# EAGLE library part ESP32-DEVKITC (library ESP32-DEVKITC-32D)
ESP32-DEVKITC
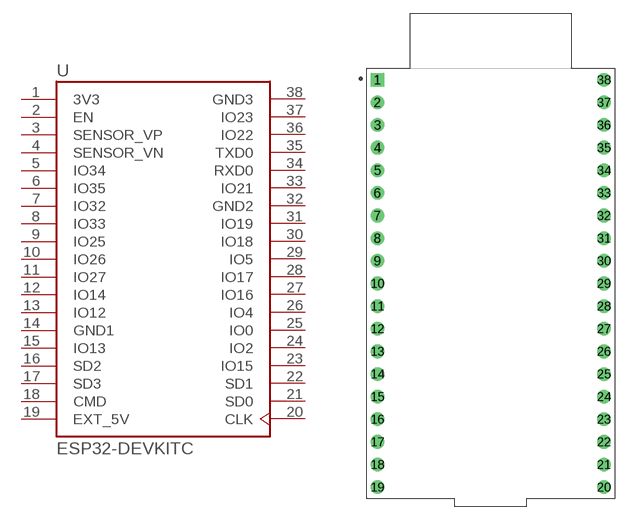
[diagram p1: symbol with the pads of MODULE_ESP32-DEVKITC; footprint MODULE_ESP32-DEVKITC]

Designator prefix U

## ESP32-DEVKITC (AVAILABILITY: Unavailable; DESCRIPTION: ESP32-DEVKITC; MF: Espressif Systems; MP: ESP32-DevKitC; PACKAGE: None; PRICE: None)  [MODULE_ESP32-DEVKITC]
1  3V3  pwr
2  EN  in
3  SENSOR_VP  in
4  SENSOR_VN  in
5  IO34
6  IO35
7  IO32
8  IO33
9  IO25
10  IO26
11  IO27
12  IO14
13  IO12
14  GND1  pwr
15  IO13
16  SD2
17  SD3
18  CMD
19  EXT_5V  pwr
20  CLK  in
21  SD0
22  SD1
23  IO15
24  IO2
25  IO0
26  IO4
27  IO16
28  IO17
29  IO5
30  IO18
31  IO19
32  GND2  pwr
33  IO21
34  RXD0  in
35  TXD0  out
36  IO22
37  IO23
38  GND3  pwr

## Footprint MODULE_ESP32-DEVKITC (pad centres in mm)
drill 1.02 square: 1 -12.7,22.85
drill 1.02: 2 -12.7,20.31; 3 -12.7,17.77; 4 -12.7,15.23; 5 -12.7,12.69; 6 -12.7,10.15; 7 -12.7,7.61; 8 -12.7,5.07; 9 -12.7,2.53; 10 -12.7,-0.01; 11 -12.7,-2.55; 12 -12.7,-5.09; 13 -12.7,-7.63; 14 -12.7,-10.17; 15 -12.7,-12.71; 16 -12.7,-15.25; 17 -12.7,-17.79; 18 -12.7,-20.33; 19 -12.7,-22.87; 20 12.7,-22.87; 21 12.7,-20.33; 22 12.7,-17.79; 23 12.7,-15.25; 24 12.7,-12.71; 25 12.7,-10.17; 26 12.7,-7.63; 27 12.7,-5.09; 28 12.7,-2.55; 29 12.7,-0.01; 30 12.7,2.53; 31 12.7,5.07; 32 12.7,7.61; 33 12.7,10.15; 34 12.7,12.69; 35 12.7,15.23; 36 12.7,17.77; 37 12.7,20.31; 38 12.7,22.85